# EAGLE library part H3LIS331DL (library SparkFun-Sensors)
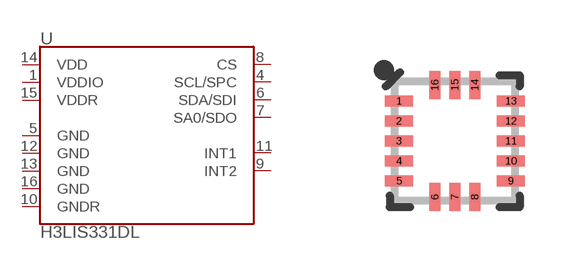
[diagram p7: symbol with the pads of LGA-16-3X3; footprint LGA-16-3X3]

Designator prefix U

## H3LIS331DL (PROD_ID: IC-13786; VALUE: H3LIS331DL)  [LGA-16-3X3]
1  VDDIO
4  SCL/SPC
5  GND
6  SDA/SDI
7  SA0/SDO
8  CS
9  INT2
10  GNDR
11  INT1
12  GND
13  GND
14  VDD
15  VDDR
16  GND

## Footprint LGA-16-3X3 (pad centres in mm)
16-Pin Land Grid Array (LGA) (3 x 3 mm) Datasheet <https://www.sparkfun.com/datasheets/Sensors/Accelerometer/LIS331HH.pdf> Specifications: Pin Count: 16 Area: 3.0 x 3.0 x 1.0 mm Pitch: 0.5 mm Devices Using: LIS331 LIS3DH
smd 0.7 x 0.28: 1 -1.4,1; 2 -1.4,0.5; 3 -1.4,0; 4 -1.4,-0.5; 5 -1.4,-1; 9 1.4,-1; 10 1.4,-0.5; 11 1.4,0; 12 1.4,0.5; 13 1.4,1
smd 0.28 x 0.7: 6 -0.5,-1.4; 7 0,-1.4; 8 0.5,-1.4; 14 0.5,1.4; 15 0,1.4; 16 -0.5,1.4